# Altium schematic symbol library Schlib1.SchLib: 6 symbols
Pins are listed as number, name and electrical type; pins without a type are passive.

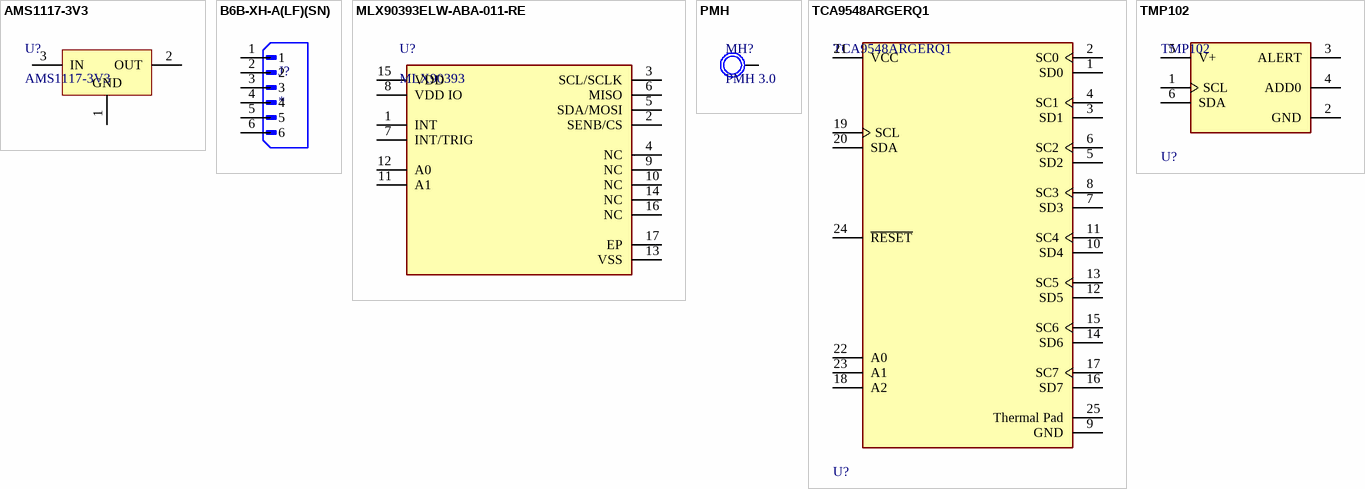
[diagram p0: symbols AMS1117-3V3 to TMP102]

## AMS1117-3V3
designator U?
SOT89
footprint AMS1117, 5V (SOT89)
pins: 1 GND (power), 2 OUT (power), 3 IN (power)

## B6B-XH-A(LF)(SN)
designator J?
Connector Header Through Hole 6 position 0.098 (2.50mm); MF: JST Sales; MP: B6B-XH-A(LF)(SN); SnapEDA_Link: https://www.snapeda.com/parts/B6B-XH-A(LF)(SN)/JST+Sales+America+Inc./view-part/?ref=snap; Package: None; Value: *; Check_prices: https://www.snapeda.com/parts/B6B-XH-A(LF)(SN)/JST+Sales+America+Inc./view-part/?ref=eda
footprint JST_B6B-XH-A(LF)(SN)
pins: 1, 2, 3, 4, 5, 6

## MLX90393ELW-ABA-011-RE
designator U?, comment MLX90393
Analog Circuit, 1 Func; Manufacturer: Melexis; Manufacturer Part Number: MLX90393ELW-ABA-011-RE; Channels: 1; Max Supply Voltage: 3.6V; Min Supply Voltage: 2.2V; Nominal Supply Voltage: 3V; Supplier: Digikey; Supplier Part Number: MLX90393ELW-ABA-011-RECT-ND; RoHS: Yes; Category: Magnetic Sensors; Stock: 37550; Pricing: 1=2.21, 5=1.964, 10=1.872, 25=1.7632, 50=1.689, 100=1.6211, 500=1.48448, 1000=1.43365 (USD); Case/Package: VQCCN; Pins: 16; Package Shape: Square; Terminal Finish: Tin; Min Operating Temperature: -40°C; Max Operating Temperature: 85°C; Throw Configuration: ANALOG CIRCUIT; JESD-30 Code: S-XQCC-N16; Package Style: CHIP CARRIER, VERY THIN PROFILEMeter; Surface Mount: Yes; Terminal Form: No Lead; Terminal Position: QUAD; Length: 3mm; Width: 3mm; Height - Seated (Max): 1mm; Terminal Pitch: 0.5mm; Temperature Grade: INDUSTRIAL; Reach SVHC Compliant: Yes; RoHS Compliant: Yes; ComponentLink1URL: https://datasheet.ciiva.com:443/pdfs/VipMasterIC/IC/MELE/MELE-S-A0009883443/MELE-S-A0009883443-1.pdf?src-supplier=IHS+Markit; ComponentLink1Description: https://datasheet.ciiva.com:443/pdfs/VipMasterIC/IC/MELE/MELE-S-A0009883443/MELE-S-A0009883443-1.pdf?src-supplier=IHS+Markit; ComponentLink2URL: https://www.melexis.com/-/media/files/documents/application-notes/mlx90393-application-note-melexis.pdf?src-supplier=Digikey; ComponentLink2Description: https://www.melexis.com/-/media/files/documents/application-notes/mlx90393-application-note-melexis.pdf?src-supplier=Digikey; ComponentLink3URL: https://www.melexis.com/-/media/files/documents/datasheets/mlx90393-datasheet-melexis.pdf?src-supplier=Digikey; ComponentLink3Description: https://www.melexis.com/-/media/files/documents/datasheets/mlx90393-datasheet-melexis.pdf?src-supplier=Digikey; ComponentLink4URL: https://datasheet.octopart.com/MLX90393ELW-ABA-011-RE-Melexis-datasheet-62983775.pdf?src-supplier=Future+Electronics; ComponentLink4Description: https://datasheet.octopart.com/MLX90393ELW-ABA-011-RE-Melexis-datasheet-62983775.pdf?src-supplier=Future+Electronics
footprint MLX90393 (QFN)
pins: 1 INT, 2 SENB/CS, 3 SCL/SCLK, 4 NC, 5 SDA/MOSI, 6 MISO, 7 INT/TRIG, 8 VDD IO, 9 NC, 10 NC, 11 A1, 12 A0, 13 VSS, 14 NC, 15 VDD, 16 NC, 17 EP

## PMH
designator MH?, comment PMH 3.0
PMH 3.0mm
footprint NPMH (3.5mm)
pins: GND

## TCA9548ARGERQ1
designator U?
I2C Switch with Reset 8 Channel Bi-Directional 1.65V to 5.25V 24-Pin VQFN Cut Tape; ComponentLink3Description: https://datasheet.ciiva.com:443/pdfs/VipMasterIC/IC/WBND/WBND-S-A0002933800/WBND-S-A0002933800-1.pdf?src-supplier=IHS+Markit; Min Supply Voltage: 1.65V; Max Supply Voltage: 5.25V; RoHS: Compliant; Length: 4mm; ComponentLink2Description: http://www.winbond.com/resource-files/w25q128jv%20spi%20revc%2011162016.pdf?src-supplier=Digikey; Width: 4mm; Min Operating Temperature: -40°C; ComponentLink1Description: http://www.winbond.com/resource-files/w25q128jv%20revf%2003272018%20plus.pdf?src-supplier=Digikey; Pins: 24; Case/Package: VQFN; Max Operating Temperature: 85°C
footprint TCA9548 (QFN)
pins: 1 SD0, 2 SC0, 3 SD1, 4 SC1, 5 SD2, 6 SC2, 7 SD3, 8 SC3, 9 GND, 10 SD4, 11 SC4, 12 SD5, 13 SC5, 14 SD6, 15 SC6, 16 SD7, 17 SC7, 18 A2, 19 SCL, 20 SDA, 21 VCC, 22 A0, 23 A1, 24 ~{RESET}, 25 Thermal Pad

## TMP102
designator U?
SENSOR DIGITAL -40C-125C SOT563; Number of Bits: 12; Output Current: 3mA; Max Supply Voltage: 3.6V; Min Supply Voltage: 1.4V; Nominal Supply Current: 85uA; Operating Supply Current: 1uA; Resolution: 12b; Interface: I2C; Quiescent Current: 10uA; Lead Free: Lead Free; RoHS Compliant: Yes; Package Quantity: 4000; Weight: 9.9E-05oz; Series: -; Output Type: Digital; Radiation Hardening: No; Max Operating Temperature: 125°C; Case/Package: SOT-563; REACH SVHC: No SVHC; Number of Pins: 6; Supply Current: 85uA; Max Supply Voltage (DC): 3.6V; Min Supply Voltage (DC): 1.4V; Mount: Surface Mount; Min Operating Temperature: -40°C; Packaging: Tape and Reel
footprint TMP102 (SOT563)
pins: 1 SCL, 2 GND, 3 ALERT, 4 ADD0, 5 V+, 6 SDA